# Altium footprint library Board_footprints.PcbLib: 24 footprints (part 2 of 2)
Each footprint in its own frame and in the unit in brackets; x right, y up, seen from the top. Pads: shape width x height; smd on the part's side, far side on the other; paste and mask are expansions set on the pad; w line width, h text height; cw(c..) or ccw(c..) is an arc to the next point about the centre after c.
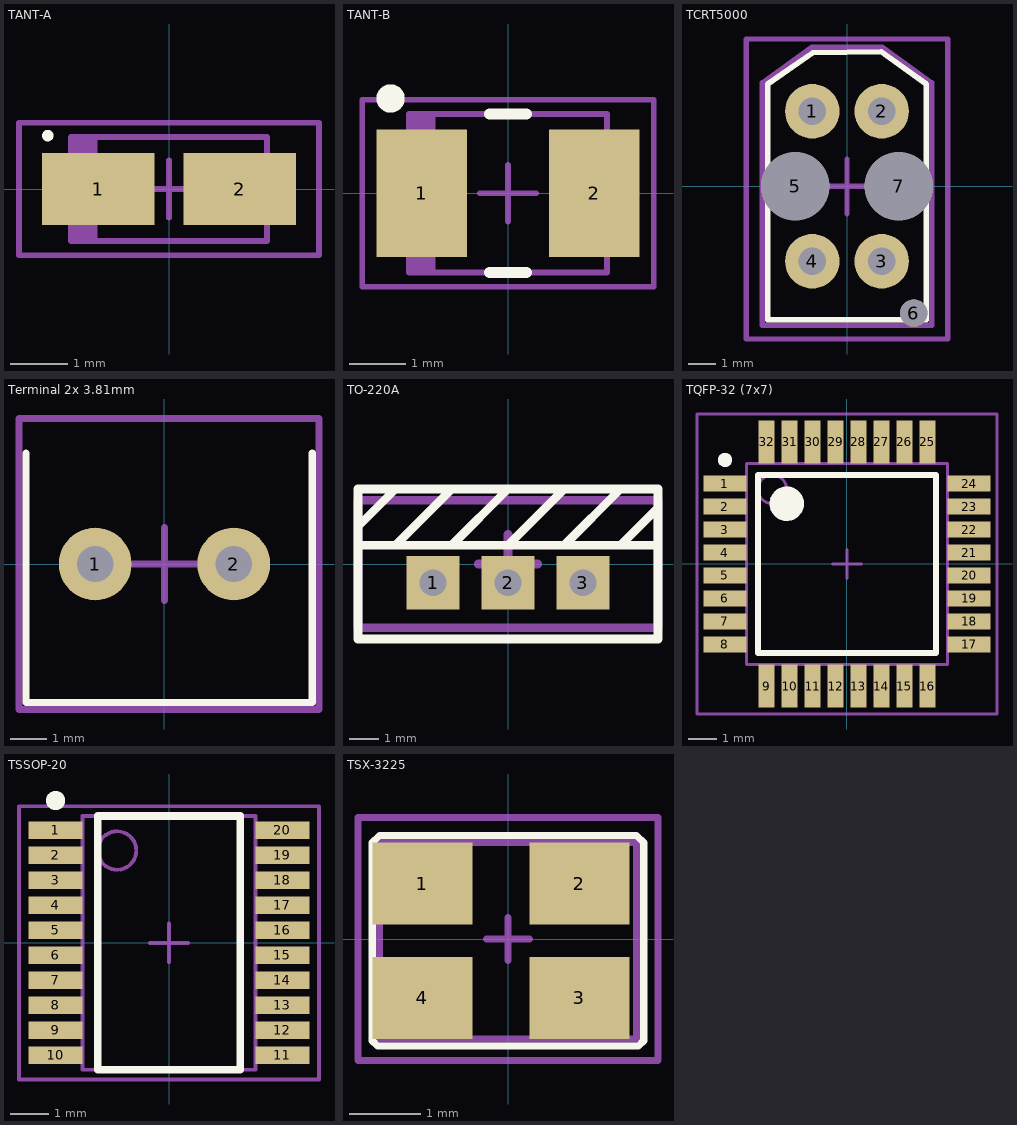
[diagram p1: the footprints below, top view; thin cyan lines are the x and y axes]

## TANT-A [mm]
pads (2):
  rect 1.95x1.25 smd: 1(-1.225,0) 2(1.225,0)
Top Overlay:
  circle w0.1: c-2.1,0.925 r0.05
Top Assy:
  rectangle: -1.7,-0.9 -1.243,0.9
  lines w0.1: -1.7,-0.9 -1.7,0.9 1.7,0.9 1.7,-0.9 -1.7,-0.9
Mechanical 15:
  lines w0.1: -0.5,0 0.5,0 ; 0,-0.5 0,0.5 ; -2.6,-1.15 -2.6,1.15 2.6,1.15 2.6,-1.15 -2.6,-1.15
3D body "TANT-A.step": height 1.71, standoff 0, extent -1.7,-0.84 1.7,0.84

## TANT-B [mm]
height 1.9
pads (2):
  rect 1.6x2.25 smd: 1(-1.525,0) 2(1.525,0)
Top Overlay:
  circle w0.25: c-2.075,1.675 r0.125
  lines w0.2: -0.325,-1.4 0.325,-1.4 ; -0.325,1.4 0.325,1.4
Top Assy:
  rectangle: -1.75,-1.4 -1.279,1.4
  lines w0.1: -1.75,-1.4 -1.75,1.4 1.75,1.4 1.75,-1.4 -1.75,-1.4
Mechanical 15:
  lines w0.1: -0.5,0 0.5,0 ; 0,-0.5 0,0.5 ; -2.575,-1.65 -2.575,1.65 2.575,1.65 2.575,-1.65 -2.575,-1.65
3D body "TANT-B.step": height 2.03, standoff 0, extent -1.85,-1.465 1.85,1.465

## TCRT5000 [mm]
pads (7):
  round 2 hole 1: 1(-1.27,2.75) 2(1.27,2.75) 3(1.27,-2.75) 4(-1.27,-2.75)
  round 2.5 hole 2.5: 5(-1.9,0) 7(1.9,0)
  round 1 hole 1: 6(2.45,-4.65)
Top Overlay:
  lines w0.2: -2.9,-4.9 2.9,-4.9 2.9,3.75 1.25,4.925 -1.25,4.9 -2.9,3.75 -2.9,-4.9
Top Assy:
  lines w0.2: -3.1,-5.1 3.1,-5.1 3.1,3.8 1.3,5.1 -1.3,5.1 -3.1,3.8 -3.1,3.3 -3.1,-5.1
Mechanical 15:
  lines w0.2: -1,0 1,0 ; 0,-1 0,1 ; -3.7,-5.6 3.7,-5.6 3.7,5.4 -3.7,5.4 -3.7,-5.6
3D body "TCRT5000.stp": height 7.02, standoff -3.5, extent -3.5,-5.1 3.5,5.1

## Terminal 2x 3.81mm [mm]
pads (2):
  round 2 hole 1: 1(-1.905,0) 2(1.905,0)
Top Overlay:
  lines w0.2: -3.81,3.048 -3.81,-3.81 4.064,-3.81 4.064,3.048
Mechanical 15:
  lines w0.2: -1,0 1,0 ; 0,-1 0,1 ; -4,-4 4.25,-4 4.25,4 -4,4 -4,-4
3D body "KLS2-340-3.81.step": height 8.5, standoff -3.5, extent -3.81,-3.75 4,3.75

## TO-220A [mm]
pads (3):
  rect 1.8x1.8 hole 0.9: 1(-2.54,-0.635) 2(0,-0.635) 3(2.54,-0.635)
Top Overlay:
  lines w0.3: -3.81,0.635 -1.905,2.54 ; -3.81,2.54 -5.08,1.27 -5.08,0.635 5.08,0.635 ; -1.905,0.635 0,2.54 ; 0,0.635 1.905,2.54 ; 1.905,0.635 3.81,2.54 ; 3.81,0.635 5.08,1.905 ; -5.08,-2.54 5.08,-2.54 5.08,2.54 -5.08,2.54 -5.08,-2.54
Mechanical 15:
  lines w0.3: -1,0 1,0 ; 0,-1 0,1 ; -5.08,-2.159 5.08,-2.159 5.08,2.159 -5.08,2.159 -5.08,-2.159
3D body "TO220.stp": height 19.5, standoff -9.4, extent -5.1,-2.286 5.1,2.214

## TQFP-32 (7x7) [mm] "TQFP, 32-Leads, Body 7,00x7,00mm, Pitch 0,80mm, IPC Medium Density"
height 1.2
pads (32):
  rect 1.5x0.55 smd: 1(-4.25,2.8) 2(-4.25,2) 3(-4.25,1.2) 4(-4.25,0.4) 5(-4.25,-0.4) 6(-4.25,-1.2) 7(-4.25,-2) 8(-4.25,-2.8) 17(4.25,-2.8) 18(4.25,-2) 19(4.25,-1.2) 20(4.25,-0.4) 21(4.25,0.4) 22(4.25,1.2) 23(4.25,2) 24(4.25,2.8)
  rect 0.55x1.5 smd: 9(-2.8,-4.25) 10(-2,-4.25) 11(-1.2,-4.25) 12(-0.4,-4.25) 13(0.4,-4.25) 14(1.2,-4.25) 15(2,-4.25) 16(2.8,-4.25) 25(2.8,4.25) 26(2,4.25) 27(1.2,4.25) 28(0.4,4.25) 29(-0.4,4.25) 30(-1.2,4.25) 31(-2,4.25) 32(-2.8,4.25)
Top Overlay:
  circle w0.6: c-2.1,2.1 r0.3
  circle w0.25: c-4.25,3.625 r0.125
  lines w0.2: -3.1,-3.1 3.1,-3.1 3.1,3.1 -3.1,3.1 -3.1,-3.1
Top Assy:
  circle w0.1: c-2.6,2.6 r0.5
  lines w0.1: -3.5,-3.5 3.5,-3.5 3.5,3.5 -3.5,3.5 -3.5,-3.5
Mechanical 15:
  lines w0.1: -0.5,0 0.5,0 ; 0,-0.5 0,0.5 ; -5.225,-5.225 5.225,-5.225 5.225,5.225 -5.225,5.225 -5.225,-5.225
3D body "TQFP-32.step": height 1.2, standoff 0, extent -4.5,-4.5 4.5,4.5

## TSSOP-20 [mm]
pads (20):
  rect 1.4x0.45 smd: 1(-2.95,2.925) 2(-2.95,2.275) 3(-2.95,1.625) 4(-2.95,0.975) 5(-2.95,0.325) 6(-2.95,-0.325) 7(-2.95,-0.975) 8(-2.95,-1.625) 9(-2.95,-2.275) 10(-2.95,-2.925) 11(2.95,-2.925) 12(2.95,-2.275) 13(2.95,-1.625) 14(2.95,-0.975) 15(2.95,-0.325) 16(2.95,0.325) 17(2.95,0.975) 18(2.95,1.625) 19(2.95,2.275) 20(2.95,2.925)
Top Overlay:
  circle w0.25: c-2.95,3.7 r0.125
  lines w0.2: -1.85,-3.3 1.85,-3.3 1.85,3.3 -1.85,3.3 -1.85,-3.3
Top Assy:
  circle w0.1: c-1.35,2.4 r0.5
  lines w0.1: -2.25,-3.3 2.25,-3.3 2.25,3.3 -2.25,3.3 -2.25,-3.3
Mechanical 15:
  lines w0.1: -0.5,0 0.5,0 ; 0,-0.5 0,0.5 ; -3.9,-3.55 3.9,-3.55 3.9,3.55 -3.9,3.55 -3.9,-3.55
3D body "TSSOP-20.stp": height 1.1, standoff 0, extent -3.2,-3.25 3.2,3.25

## TSX-3225 [mm] "Crystal"
pads (4):
  rect 1.4x1.15 smd: 1(-1.2,0.775) 2(1,0.775) 3(1,-0.825) 4(-1.2,-0.825)
Top Overlay:
  lines w0.1: -1.9,-1.425 -1.9,-0.025 -1.9,1.35 -1.8,1.45 1.8,1.45 1.9,1.35 1.9,1.275 1.9,-1.425 1.825,-1.5 -1.825,-1.5 -1.9,-1.425
Top Assy:
  lines w0.1: -1.8,-1.4 -1.8,1.35 1.8,1.35 1.8,-1.4 -1.8,-1.4
Mechanical 15:
  lines w0.1: -0.3,0 0.3,0 ; 0,-0.3 0,0.3 ; -2.1,-1.7 2.1,-1.7 2.1,1.7 -2.1,1.7 -2.1,-1.7
3D body "TSX-3225.step": height 0.6, standoff 0, extent -1.55,-1.3 1.65,1.2